# Altium footprint library PJ-327A.PcbLib: 1 footprints
Each footprint in its own frame and in the unit in brackets; x right, y up, seen from the top. Pads: shape width x height; smd on the part's side, far side on the other; paste and mask are expansions set on the pad; w line width, h text height; cw(c..) or ccw(c..) is an arc to the next point about the centre after c.
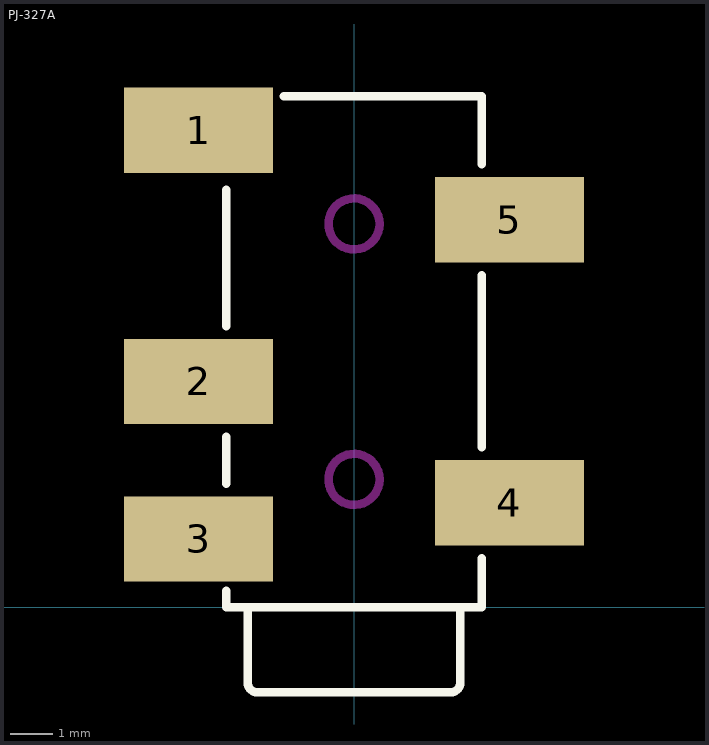
[diagram p0: the footprint, top view; thin cyan lines are the x and y axes]

## PJ-327A [mm] "3.5mm stereo jack PJ-327A"
height 5
pads (5):
  rect 3.5x2 smd: 1(-3.65,11.2) 2(-3.65,5.3) 3(-3.65,1.6) 4(3.65,2.45) 5(3.65,9.1)
Top Overlay:
  lines w0.2: -3,0.381 -3,0 3,0 3,1.143 ; -3,2.9 -3,4 ; -3,6.6 -3,7.874 -3,9.8 ; -2.5,0 -2.5,-1.778 ccw(c-2.278,-1.778) -2.278,-2 2.278,-2 ccw(c2.278,-1.778) 2.5,-1.778 2.5,0 ; -1.651,12 3,12 3,11.306 3,10.4 ; 3,3.75 3,4.326 3,7.8
Keep-Out Layer:
  circle w0.2: c0,9 r0.6
  circle w0.2: c0,3 r0.6